# Altium footprint library PcbLib3.PcbLib: 1 footprints
Each footprint in its own frame and in the unit in brackets; x right, y up, seen from the top. Pads: shape width x height; smd on the part's side, far side on the other; paste and mask are expansions set on the pad; w line width, h text height; cw(c..) or ccw(c..) is an arc to the next point about the centre after c.
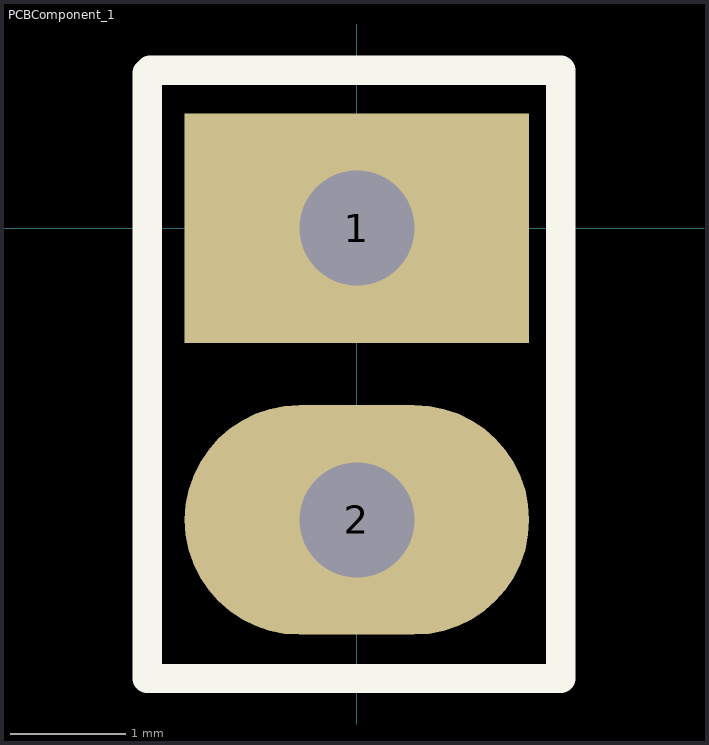
[diagram p0: the footprint, top view; thin cyan lines are the x and y axes]

## PCBComponent_1 [mm]
pads (2):
  rect 3x2 hole 1: 1(0,0)
  oval 3x2 hole 1: 2(0,-2.54)
Top Overlay:
  lines w0.254: -1.825,-3.92 1.775,-3.92 1.775,0.475 1.775,1.375 -1.8,1.375 -1.825,1.35 -1.825,0.2 -1.825,-3.92